# Altium footprint library WE-LHMI_7050.PcbLib: 1 footprints
Each footprint in its own frame and in the unit in brackets; x right, y up, seen from the top. Pads: shape width x height; smd on the part's side, far side on the other; paste and mask are expansions set on the pad; w line width, h text height; cw(c..) or ccw(c..) is an arc to the next point about the centre after c.
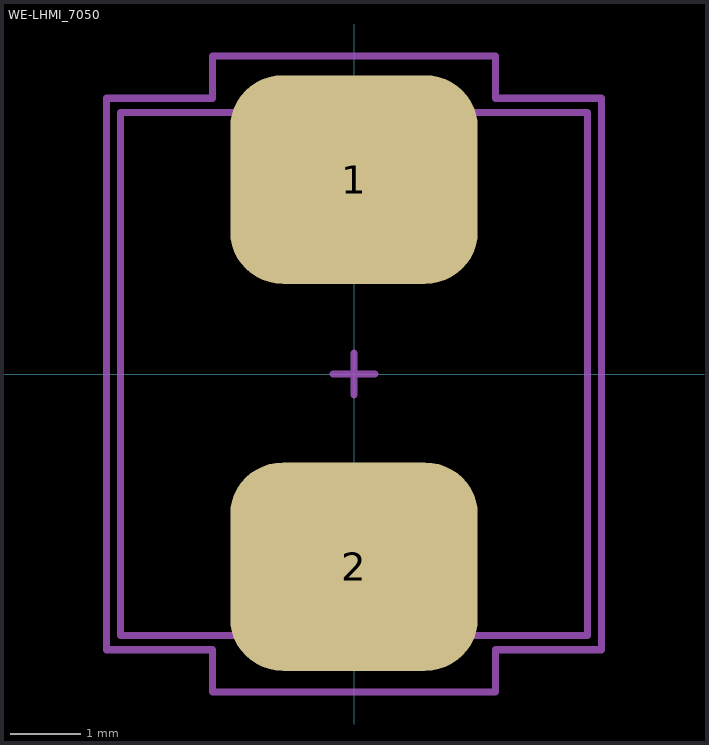
[diagram p0: the footprint, top view; thin cyan lines are the x and y axes]

## WE-LHMI_7050 [mm]
pads (2):
  rrect50% 3.5x2.95 smd mask+0.05: 1(0,2.75) 2(0,-2.725)
Top Assembly:
  lines w0.1: -3.3,-3.7 -3.3,3.7 3.3,3.7 3.3,-3.7 -3.3,-3.7
Top Courtyard:
  lines w0.1: -0.3,0 0.3,0 ; 0,-0.3 0,0.3 ; -3.5,-3.9 -2,-3.9 -2,-4.5 2,-4.5 2,-3.9 3.5,-3.9 3.5,3.9 2,3.9 2,4.5 -2,4.5 -2,3.9 -3.5,3.9 -3.5,-3.9
3D body "WE-LHMI_7050LHMI (rev1).stp": height 4.8, standoff 0, extent -3.3,-3.65 3.3,3.65